# Altium footprint library QSE-020-01-X-D-A.PcbLib: 1 footprints
Each footprint in its own frame and in the unit in brackets; x right, y up, seen from the top. Pads: shape width x height; smd on the part's side, far side on the other; paste and mask are expansions set on the pad; w line width, h text height; cw(c..) or ccw(c..) is an arc to the next point about the centre after c.
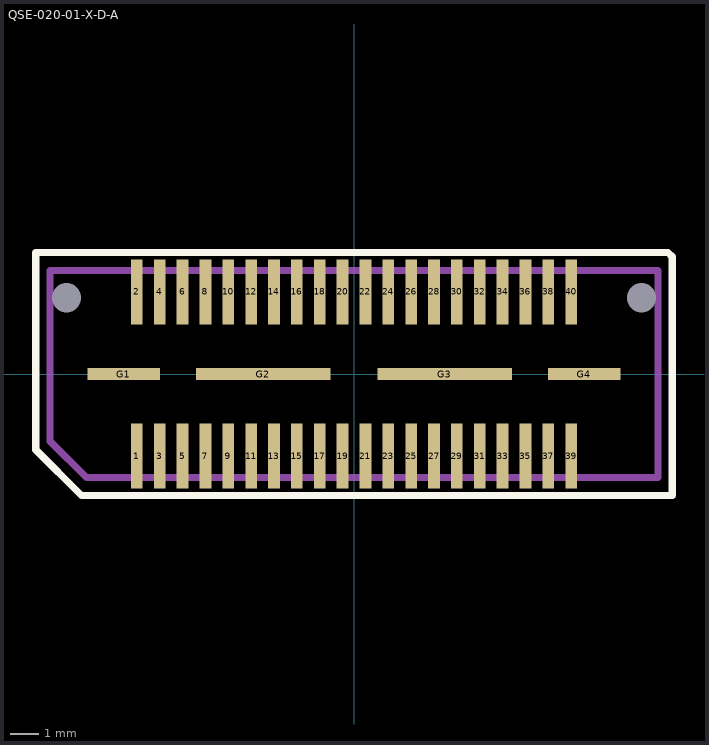
[diagram p0: the footprint, top view; thin cyan lines are the x and y axes]

## QSE-020-01-X-D-A [mm]
pads (46):
  rect 0.41x2.27 smd mask+0.05: 1(-7.6,-2.87) 2(-7.6,2.87) 3(-6.8,-2.87) 4(-6.8,2.87) 5(-6,-2.87) 6(-6,2.87) 7(-5.2,-2.87) 8(-5.2,2.87) 9(-4.4,-2.87) 10(-4.4,2.87) 11(-3.6,-2.87) 12(-3.6,2.87) 13(-2.8,-2.87) 14(-2.8,2.87) 15(-2,-2.87) 16(-2,2.87) 17(-1.2,-2.87) 18(-1.2,2.87) 19(-0.4,-2.87) 20(-0.4,2.87) 21(0.4,-2.87) 22(0.4,2.87) 23(1.2,-2.87) 24(1.2,2.87) 25(2,-2.87) 26(2,2.87) 27(2.8,-2.87) 28(2.8,2.87) 29(3.6,-2.87) 30(3.6,2.87) 31(4.4,-2.87) 32(4.4,2.87) 33(5.2,-2.87) 34(5.2,2.87) 35(6,-2.87) 36(6,2.87) 37(6.8,-2.87) 38(6.8,2.87) 39(7.6,-2.87) 40(7.6,2.87)
  rect 2.54x0.43 smd mask+0.05: G1(-8.065,0) G4(8.065,0)
  rect 4.7x0.43 smd mask+0.05: G2(-3.175,0) G3(3.175,0)
  round 0 hole 1.02 unplated: MH1(-10.065,2.67) MH2(10.065,2.67)
Top Overlay:
  lines w0.254: -11.135,4.25 -11.135,-2.65 -9.535,-4.25 ; -11.049,4.25 10.99,4.25 11.135,4.105 11.135,-4.25 -9.525,-4.25
Mechanical 1:
  lines w0.254: -10.635,-2.35 -9.365,-3.62 10.635,-3.62 10.635,3.62 -10.635,3.62 -10.635,-2.35
  text "J1" at -0.497,-0.508 h0.76
3D body: height 3.25, standoff -0.75, extent -10.636,-3.746 10.636,3.772